# EAGLE library part EPF10K20-R240 (library altera)
EPF10K20 FLEX 10K family
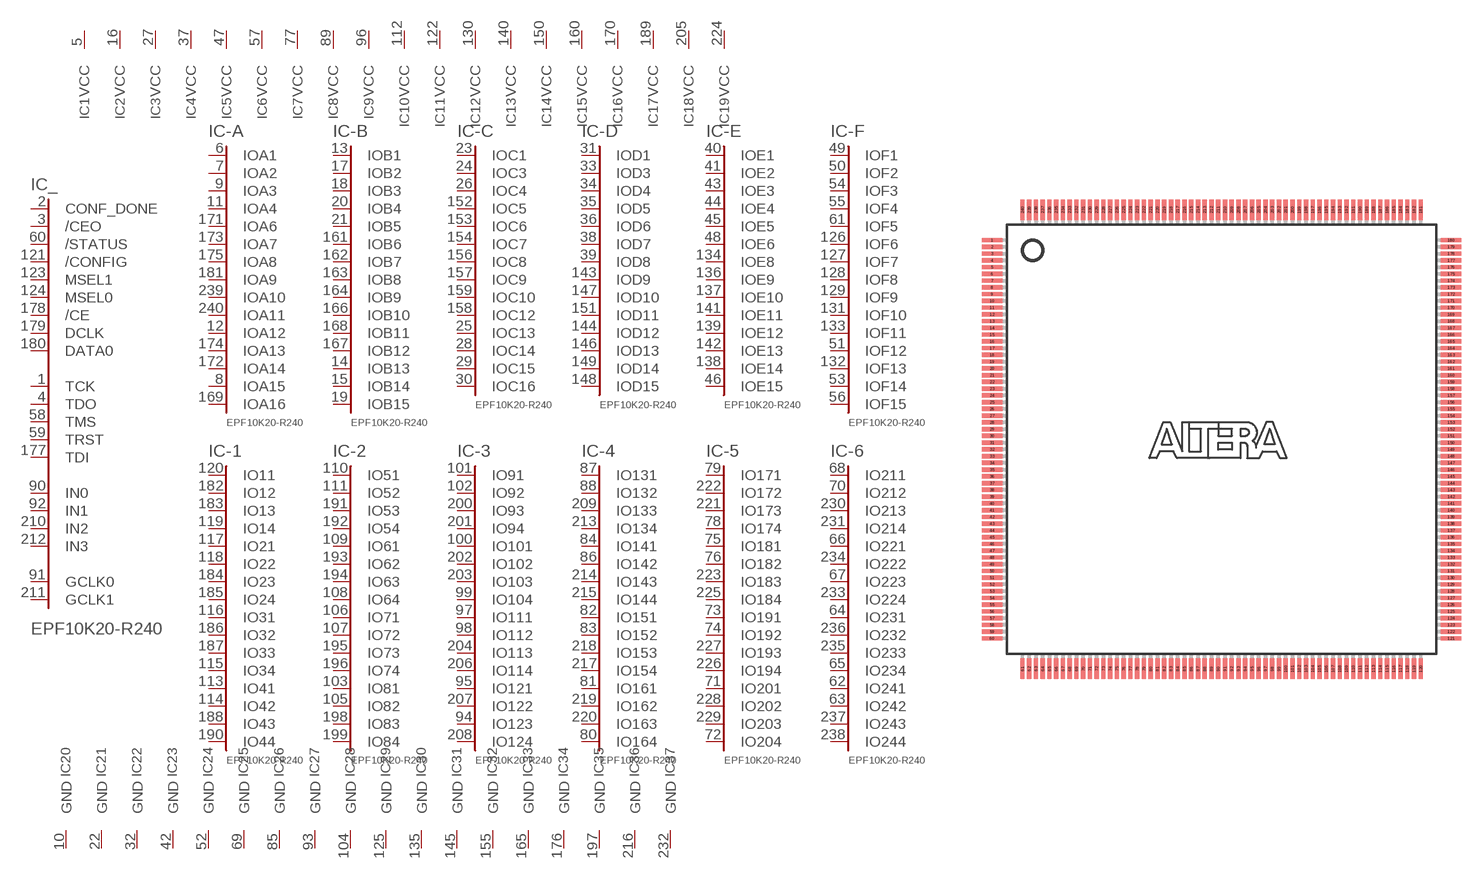
[diagram p53: symbol with the pads of RQFP240; footprint RQFP240]

Designator prefix IC; gates _=100R240C -A=A16-15 -B=B16-15 -C=C16-14 -D=D15-14 -E=E15-14 -F=F15 -1=IO44 -2=IO84 -3=IO124 -4=IO164 -5=IO204 -6=IO244 1=VCCINT 2=VCCINT 3=VCCINT 4=VCCINT 5=VCCINT 6=VCCINT 7=VCCINT 8=VCCINT 9=VCCINT 10=VCCINT 11=VCCINT 12=VCCINT 13=VCCINT 14=VCCINT 15=VCCINT 16=VCCINT 17=VCCINT 18=VCCINT 19=VCCINT 20=GNDINT 21=GNDINT 22=GNDINT 23=GNDINT 24=GNDINT 25=GNDINT 26=GNDINT 27=GNDINT 28=GNDINT 29=GNDINT 30=GNDINT 31=GNDINT 32=GNDINT 33=GNDINT 34=GNDINT 35=GNDINT 36=GNDINT 37=GNDINT

## EPF10K20-R240  [RQFP240]
1  _:TCK
2  _:CONF_DONE  in
3  _:/CEO  in
4  _:TDO
5  1:VCC  pwr
6  -A:IOA1
7  -A:IOA2
8  -A:IOA15
9  -A:IOA3
10  20:GND  pwr
11  -A:IOA4
12  -A:IOA12
13  -B:IOB1
14  -B:IOB13
15  -B:IOB14
16  2:VCC  pwr
17  -B:IOB2
18  -B:IOB3
19  -B:IOB15
20  -B:IOB4
21  -B:IOB5
22  21:GND  pwr
23  -C:IOC1
24  -C:IOC3
25  -C:IOC13
26  -C:IOC4
27  3:VCC  pwr
28  -C:IOC14
29  -C:IOC15
30  -C:IOC16
31  -D:IOD1
32  22:GND  pwr
33  -D:IOD3
34  -D:IOD4
35  -D:IOD5
36  -D:IOD6
37  4:VCC  pwr
38  -D:IOD7
39  -D:IOD8
40  -E:IOE1
41  -E:IOE2
42  23:GND  pwr
43  -E:IOE3
44  -E:IOE4
45  -E:IOE5
46  -E:IOE15
47  5:VCC  pwr
48  -E:IOE6
49  -F:IOF1
50  -F:IOF2
51  -F:IOF12
52  24:GND  pwr
53  -F:IOF14
54  -F:IOF3
55  -F:IOF4
56  -F:IOF15
57  6:VCC  pwr
58  _:TMS
59  _:TRST
60  _:/STATUS  in
61  -F:IOF5
62  -6:IO241
63  -6:IO242
64  -6:IO231
65  -6:IO234
66  -6:IO221
67  -6:IO223
68  -6:IO211
69  25:GND  pwr
70  -6:IO212
71  -5:IO201
72  -5:IO204
73  -5:IO191
74  -5:IO192
75  -5:IO181
76  -5:IO182
77  7:VCC  pwr
78  -5:IO174
79  -5:IO171
80  -4:IO164
81  -4:IO161
82  -4:IO151
83  -4:IO152
84  -4:IO141
85  26:GND  pwr
86  -4:IO142
87  -4:IO131
88  -4:IO132
89  8:VCC  pwr
90  _:IN0  in
91  _:GCLK0  in
92  _:IN1  in
93  27:GND  pwr
94  -3:IO123
95  -3:IO121
96  9:VCC  pwr
97  -3:IO111
98  -3:IO112
99  -3:IO104
100  -3:IO101
101  -3:IO91
102  -3:IO92
103  -2:IO81
104  28:GND  pwr
105  -2:IO82
106  -2:IO71
107  -2:IO72
108  -2:IO64
109  -2:IO61
110  -2:IO51
111  -2:IO52
112  10:VCC  pwr
113  -1:IO41
114  -1:IO42
115  -1:IO34
116  -1:IO31
117  -1:IO21
118  -1:IO22
119  -1:IO14
120  -1:IO11
121  _:/CONFIG  in
122  11:VCC  pwr
123  _:MSEL1  in
124  _:MSEL0  in
125  29:GND  pwr
126  -F:IOF6
127  -F:IOF7
128  -F:IOF8
129  -F:IOF9
130  12:VCC  pwr
131  -F:IOF10
132  -F:IOF13
133  -F:IOF11
134  -E:IOE8
135  30:GND  pwr
136  -E:IOE9
137  -E:IOE10
138  -E:IOE14
139  -E:IOE12
140  13:VCC  pwr
141  -E:IOE11
142  -E:IOE13
143  -D:IOD9
144  -D:IOD12
145  31:GND  pwr
146  -D:IOD13
147  -D:IOD10
148  -D:IOD15
149  -D:IOD14
150  14:VCC  pwr
151  -D:IOD11
152  -C:IOC5
153  -C:IOC6
154  -C:IOC7
155  32:GND  pwr
156  -C:IOC8
157  -C:IOC9
158  -C:IOC12
159  -C:IOC10
160  15:VCC  pwr
161  -B:IOB6
162  -B:IOB7
163  -B:IOB8
164  -B:IOB9
165  33:GND  pwr
166  -B:IOB10
167  -B:IOB12
168  -B:IOB11
169  -A:IOA16
170  16:VCC  pwr
171  -A:IOA6
172  -A:IOA14
173  -A:IOA7
174  -A:IOA13
175  -A:IOA8
176  34:GND  pwr
177  _:TDI
178  _:/CE  in
179  _:DCLK  in
180  _:DATA0  in
181  -A:IOA9
182  -1:IO12
183  -1:IO13
184  -1:IO23
185  -1:IO24
186  -1:IO32
187  -1:IO33
188  -1:IO43
189  17:VCC  pwr
190  -1:IO44
191  -2:IO53
192  -2:IO54
193  -2:IO62
194  -2:IO63
195  -2:IO73
196  -2:IO74
197  35:GND  pwr
198  -2:IO83
199  -2:IO84
200  -3:IO93
201  -3:IO94
202  -3:IO102
203  -3:IO103
204  -3:IO113
205  18:VCC  pwr
206  -3:IO114
207  -3:IO122
208  -3:IO124
209  -4:IO133
210  _:IN2  in
211  _:GCLK1  in
212  _:IN3  in
213  -4:IO134
214  -4:IO143
215  -4:IO144
216  36:GND  pwr
217  -4:IO154
218  -4:IO153
219  -4:IO162
220  -4:IO163
221  -5:IO173
222  -5:IO172
223  -5:IO183
224  19:VCC  pwr
225  -5:IO184
226  -5:IO194
227  -5:IO193
228  -5:IO202
229  -5:IO203
230  -6:IO213
231  -6:IO214
232  37:GND  pwr
233  -6:IO224
234  -6:IO222
235  -6:IO233
236  -6:IO232
237  -6:IO243
238  -6:IO244
239  -A:IOA10
240  -A:IOA11

## Footprint RQFP240 (pad centres in mm)
Power Quad Flat Pack
smd 1.5 x 0.32: 1 -17,14.75; 2 -17,14.25; 3 -17,13.75; 4 -17,13.25; 5 -17,12.75; 6 -17,12.25; 7 -17,11.75; 8 -17,11.25; 9 -17,10.75; 10 -17,10.25; 11 -17,9.75; 12 -17,9.25; 13 -17,8.75; 14 -17,8.25; 15 -17,7.75; 16 -17,7.25; 17 -17,6.75; 18 -17,6.25; 19 -17,5.75; 20 -17,5.25; 21 -17,4.75; 22 -17,4.25; 23 -17,3.75; 24 -17,3.25; 25 -17,2.75; 26 -17,2.25; 27 -17,1.75; 28 -17,1.25; 29 -17,0.75; 30 -17,0.25; 31 -17,-0.25; 32 -17,-0.75; 33 -17,-1.25; 34 -17,-1.75; 35 -17,-2.25; 36 -17,-2.75; 37 -17,-3.25; 38 -17,-3.75; 39 -17,-4.25; 40 -17,-4.75; 41 -17,-5.25; 42 -17,-5.75; 43 -17,-6.25; 44 -17,-6.75; 45 -17,-7.25; 46 -17,-7.75; 47 -17,-8.25; 48 -17,-8.75; 49 -17,-9.25; 50 -17,-9.75; 51 -17,-10.25; 52 -17,-10.75; 53 -17,-11.25; 54 -17,-11.75; 55 -17,-12.25; 56 -17,-12.75; 57 -17,-13.25; 58 -17,-13.75; 59 -17,-14.25; 60 -17,-14.75; 121 17,-14.75; 122 17,-14.25; 123 17,-13.75; 124 17,-13.25; 125 17,-12.75; 126 17,-12.25; 127 17,-11.75; 128 17,-11.25; 129 17,-10.75; 130 17,-10.25; 131 17,-9.75; 132 17,-9.25; 133 17,-8.75; 134 17,-8.25; 135 17,-7.75; 136 17,-7.25; 137 17,-6.75; 138 17,-6.25; 139 17,-5.75; 140 17,-5.25; 141 17,-4.75; 142 17,-4.25; 143 17,-3.75; 144 17,-3.25; 145 17,-2.75; 146 17,-2.25; 147 17,-1.75; 148 17,-1.25; 149 17,-0.75; 150 17,-0.25; 151 17,0.25; 152 17,0.75; 153 17,1.25; 154 17,1.75; 155 17,2.25; 156 17,2.75; 157 17,3.25; 158 17,3.75; 159 17,4.25; 160 17,4.75; 161 17,5.25; 162 17,5.75; 163 17,6.25; 164 17,6.75; 165 17,7.25; 166 17,7.75; 167 17,8.25; 168 17,8.75; 169 17,9.25; 170 17,9.75; 171 17,10.25; 172 17,10.75; 173 17,11.25; 174 17,11.75; 175 17,12.25; 176 17,12.75; 177 17,13.25; 178 17,13.75; 179 17,14.25; 180 17,14.75
smd 0.32 x 1.5: 61 -14.75,-17; 62 -14.25,-17; 63 -13.75,-17; 64 -13.25,-17; 65 -12.75,-17; 66 -12.25,-17; 67 -11.75,-17; 68 -11.25,-17; 69 -10.75,-17; 70 -10.25,-17; 71 -9.75,-17; 72 -9.25,-17; 73 -8.75,-17; 74 -8.25,-17; 75 -7.75,-17; 76 -7.25,-17; 77 -6.75,-17; 78 -6.25,-17; 79 -5.75,-17; 80 -5.25,-17; 81 -4.75,-17; 82 -4.25,-17; 83 -3.75,-17; 84 -3.25,-17; 85 -2.75,-17; 86 -2.25,-17; 87 -1.75,-17; 88 -1.25,-17; 89 -0.75,-17; 90 -0.25,-17; 91 0.25,-17; 92 0.75,-17; 93 1.25,-17; 94 1.75,-17; 95 2.25,-17; 96 2.75,-17; 97 3.25,-17; 98 3.75,-17; 99 4.25,-17; 100 4.75,-17; 101 5.25,-17; 102 5.75,-17; 103 6.25,-17; 104 6.75,-17; 105 7.25,-17; 106 7.75,-17; 107 8.25,-17; 108 8.75,-17; 109 9.25,-17; 110 9.75,-17; 111 10.25,-17; 112 10.75,-17; 113 11.25,-17; 114 11.75,-17; 115 12.25,-17; 116 12.75,-17; 117 13.25,-17; 118 13.75,-17; 119 14.25,-17; 120 14.75,-17; 181 14.75,17; 182 14.25,17; 183 13.75,17; 184 13.25,17; 185 12.75,17; 186 12.25,17; 187 11.75,17; 188 11.25,17; 189 10.75,17; 190 10.25,17; 191 9.75,17; 192 9.25,17; 193 8.75,17; 194 8.25,17; 195 7.75,17; 196 7.25,17; 197 6.75,17; 198 6.25,17; 199 5.75,17; 200 5.25,17; 201 4.75,17; 202 4.25,17; 203 3.75,17; 204 3.25,17; 205 2.75,17; 206 2.25,17; 207 1.75,17; 208 1.25,17; 209 0.75,17; 210 0.25,17; 211 -0.25,17; 212 -0.75,17; 213 -1.25,17; 214 -1.75,17; 215 -2.25,17; 216 -2.75,17; 217 -3.25,17; 218 -3.75,17; 219 -4.25,17; 220 -4.75,17; 221 -5.25,17; 222 -5.75,17; 223 -6.25,17; 224 -6.75,17; 225 -7.25,17; 226 -7.75,17; 227 -8.25,17; 228 -8.75,17; 229 -9.25,17; 230 -9.75,17; 231 -10.25,17; 232 -10.75,17; 233 -11.25,17; 234 -11.75,17; 235 -12.25,17; 236 -12.75,17; 237 -13.25,17; 238 -13.75,17; 239 -14.25,17; 240 -14.75,17